# Altium integrated library 0402.IntLib: 1 symbol
Pins are listed as number, name and electrical type; pins without a type are passive.

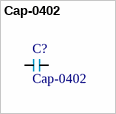
[diagram p0: symbol Cap-0402]

## Cap-0402
designator C?
footprint LC-0402
pins: 0, 1